# EAGLE library part CON-14-PIN (library jason-test)
14-pin connector
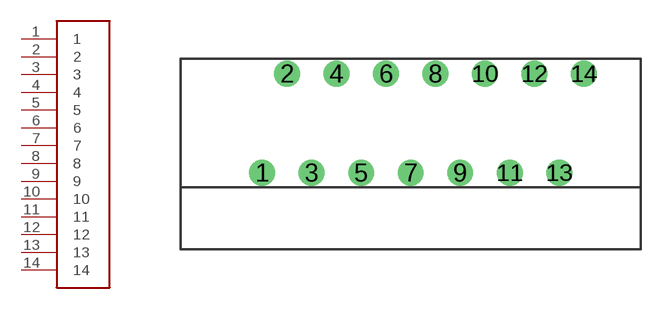
[diagram p3: symbol with the pads of MOLEXFPC14; footprint MOLEXFPC14]

Designator prefix -

## CON-14-PIN  [MOLEXFPC14]
1  1
2  2
3  3
4  4
5  5
6  6
7  7
8  8
9  9
10  10
11  11
12  12
13  13
14  14

## Footprint MOLEXFPC14 (pad centres in mm)
Molex FFC/FPC 14-pin connector (R/A, ZIF)
drill 0.8 round: 1 -7.5,-2.5; 2 -6.25,2.5; 3 -5,-2.5; 4 -3.75,2.5; 5 -2.5,-2.5; 6 -1.25,2.5; 7 0,-2.5; 8 1.25,2.5; 9 2.5,-2.5; 10 3.75,2.5; 11 5,-2.5; 12 6.25,2.5; 13 7.5,-2.5; 14 8.75,2.5